# Altium schematic symbol library BOT_SENSORS_LIB.SchLib: 13 symbols
Pins are listed as number, name and electrical type; pins without a type are passive.

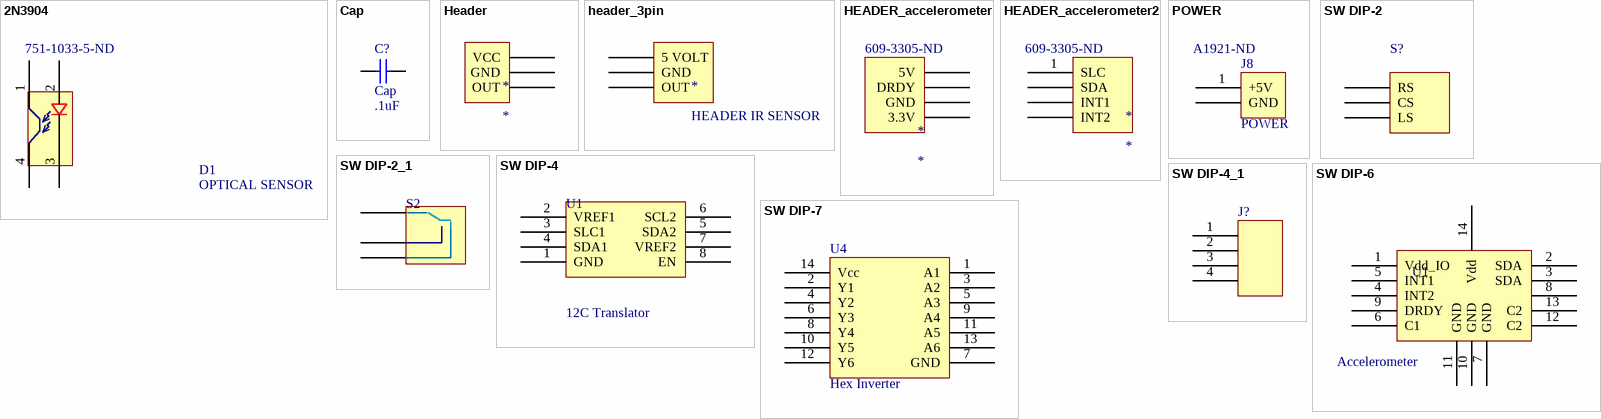
[diagram p0: symbols 2N3904 to SW DIP-7]

## 2N3904
designator D1, comment OPTICAL SENSOR  Supplier Part Number 1: 751-1033-5-ND
Published: 8-Jun-2000; LatestRevisionDate: 15-Jan-2003; LatestRevisionNote: PCB Footprint 'BCY-W3/D4.7' replaced; DatasheetVersion: 1997; PackageVersion: Sep-1998; PackageReference: TO-92A; Publisher: Altium Limited; PackageDescription: TO, Flat Index; 3 In-Line, Axial Leads; Body Dia. 4.5mm; Leads 0.51 x 0.48 mm (max); ComponentLink1Description: Manufacturer Link; ComponentLink1URL: http://www.fairchildsemi.com/; ComponentLink2Description: Datasheet; ComponentLink2URL: http://www.fairchildsemi.com/ds/2N%2F2N3904.pdf; Supplier 1: Digi-Key
simulation model 2N3904 (NPN)
signal-integrity model 2N3904
footprint OPTOISOLATOR
pins: 1 Collector, 2 Anode, 3 Cathode, 4 Emitter

## Cap
designator C?  value .1uF
Capacitor; Published: 8-Jun-2000; LatestRevisionDate: 17-Jul-2002; LatestRevisionNote: Re-released for DXP Platform.; PackageReference: RAD-0.3; Publisher: Altium Limited; PackageDescription: Radial Cap, Thru-Hole; 2 Leads; 0.3 in Pin Spacing; Supplier 1: Digi-Key; Supplier Part Number 1: 445-4007-1-ND
simulation model CAP (Capacitor)
signal-integrity model Cap
footprint CAPACITORS (Chip Capacitor, 2-Leads, Body 3.20x1.60mm, IPC Low Density)
pins: 1, 2

## Header
designator *
Supplier 1: Digi-Key; Supplier Part Number 1: WM8097-ND
footprint HEADER3 (Connector; Header; 3 Position)
pins: 1 OUT, 2 GND, 3 VCC

## header_3pin
designator *, comment HEADER IR SENSOR
Supplier 1: Digi-Key; Supplier Part Number 1: WM8097-ND
footprint HEADER3 (Connector; Header; 3 Position)
pins: 1 OUT, 2 GND, 3 5 VOLT

## HEADER_accelerometer
designator *  Supplier Part Number 1: 609-3305-ND
Supplier 1: Digi-Key
footprint HEADER4 (Connector; Header; 4 Position)
pins: 1 3.3V, 2 GND, 3 DRDY, 4 5V

## HEADER_accelerometer2
designator *  Supplier Part Number 1: 609-3305-ND
Supplier 1: Digi-Key
footprint HEADER4 (Connector; Header; 4 Position)
pins: 1 SLC, 2 SDA, 3 INT1, 4 INT2

## POWER
designator J8  Supplier Part Number 1: A1921-ND
Supplier 1: Digi-Key
footprint HEADER2 (Connector; Header; 2 Position)
pins: 1 +5V, 2 GND

## SW DIP-2
designator S?, comment 3 POS HEADER  (value not drawn)
Published: 24-Mar-1999; LatestRevisionDate: 17-Jul-2002; LatestRevisionNote: Re-released for DXP Platform.; PackageReference: DIP-4; Publisher: Altium Limited; Supplier 1: Digi-Key; Supplier Part Number 1: WM8097-ND
simulation model dpsw2 (Spice Subcircuit)
footprint HEADER3 (Connector; Header; 3 Position)
pins: 1 RS, 2 CS, 3 LS

## SW DIP-2_1
designator S2, comment Switch  (value not drawn)
Published: 24-Mar-1999; LatestRevisionDate: 17-Jul-2002; LatestRevisionNote: Re-released for DXP Platform.; PackageReference: DIP-4; Publisher: Altium Limited; Supplier 1: Mouser; Supplier Part Number 1: 653-SS-01GL13D
simulation model dpsw2 (Spice Subcircuit)
footprint HEADER3 (Connector; Header; 3 Position)
pins: 1 COM, 2 NO, 3 NC

## SW DIP-4
designator U1, comment 12C Translator
Published: 24-Mar-1999; LatestRevisionDate: 29-May-2009; LatestRevisionNote: IPC-7351 Footprint Added.; PackageVersion: Dec-2002; PackageReference: SO8; Publisher: Altium Limited; PackageDescription: 8-Pin Small Outline Integrated Circuit 1.27 mm Pitch; Code_JEDEC: MS-012-AA; Code_IPC: SOIC127P600-8; Supplier 1: Digi-Key; Supplier Part Number 1: 568-4215-1-ND
simulation model dpsw4 (Spice Subcircuit)
footprint 12CTRANSLATOR (TSOP, 8-Leads, Body 4.90x3.90mm, Pitch 1.27mm, IPC Low Density)
pins: 1 GND, 2 VREF1, 3 SLC1, 4 SDA1, 5 SDA2, 6 SCL2, 7 VREF2, 8 EN

## SW DIP-4_1
designator J?, comment SW DIP-4  (value not drawn)
DIP Switch, 4 Position, SPST; Published: 24-Mar-1999; LatestRevisionDate: 29-May-2009; LatestRevisionNote: IPC-7351 Footprint Added.; PackageVersion: Dec-2002; PackageReference: SO8; Publisher: Altium Limited; PackageDescription: 8-Pin Small Outline Integrated Circuit 1.27 mm Pitch; Code_JEDEC: MS-012-AA; Code_IPC: SOIC127P600-8; Supplier 1: Digi-Key; Supplier Part Number 1: 609-3305-ND
simulation model dpsw4 (Spice Subcircuit)
footprint HEADER4 (Connector; Header; 4 Position)
pins: 1, 2, 3, 4

## SW DIP-6
designator U1, comment Accelerometer
Published: 24-Mar-1999; LatestRevisionDate: 17-Jul-2002; LatestRevisionNote: Re-released for DXP Platform.; PackageReference: DIP-12/SW; Publisher: Altium Limited; PackageDescription: DIP Switch; 12 Leads; Supplier 1: Digi-Key; Supplier Part Number 1: 497-11918-1-ND
simulation model dpsw6 (Spice Subcircuit)
footprint ACCELEROMETER
pins: 1 Vdd_IO, 2 SDA, 3 SDA, 4 INT2, 5 INT1, 6 C1, 7 GND, 8, 9 DRDY, 10 GND, 11 GND, 12 C2, 13 C2, 14 Vdd

## SW DIP-7
designator U4, comment Hex Inverter
Published: 24-Mar-1999; LatestRevisionDate: 17-Jul-2002; LatestRevisionNote: Re-released for DXP Platform.; PackageReference: DIP-14; Publisher: Altium Limited; Code_JEDEC: MO-001-AF; Supplier 1: Newark; Supplier Part Number 1: 78K6063
simulation model dpsw7 (Spice Subcircuit)
footprint HEXINVERTER (SOP, 14-Leads, Body 8.63x3.90mm, Pitch 1.27mm, IPC Low Density)
pins: 1 A1, 2 Y1, 3 A2, 4 Y2, 5 A3, 6 Y3, 7 GND, 8 Y4, 9 A4, 10 Y5, 11 A5, 12 Y6, 13 A6, 14 Vcc